# Altium schematic symbol library CN 8x1.Schlib: 1 symbol
Pins are listed as number, name and electrical type; pins without a type are passive.

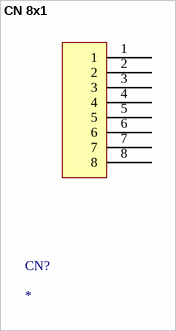
[diagram p0: symbol CN 8x1]

## CN 8x1
designator CN?
pins: 1, 2, 3, 4, 5, 6, 7, 8